# EAGLE library part 74HC390D (library NXP_By_element14_Batch_1)
Dual decade ripple counter
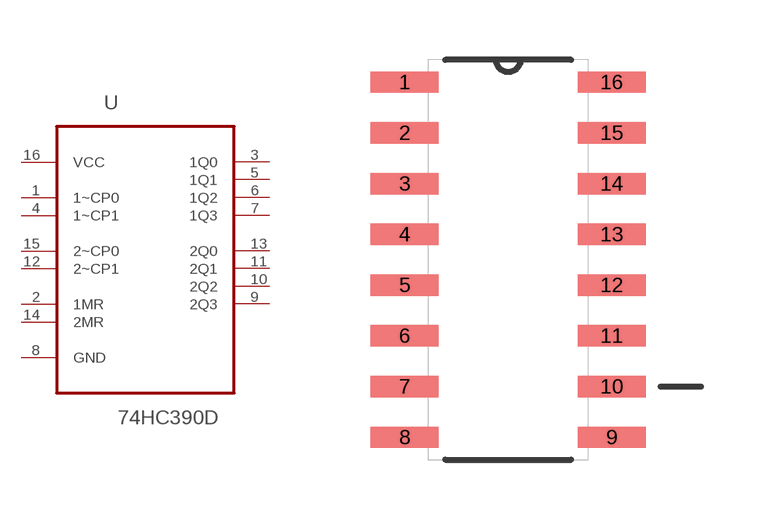
[diagram p79: symbol with the pads of SOIC127P600X175-16N; footprint SOIC127P600X175-16N]

Designator prefix U

## 74HC390D (MPN: 74HC390D; OC_FARNELL: 1085343; OC_NEWARK: 99K0594; P1I: o; PACKAGE: SOIC-16; SUPPLIER: NXP)  [SOIC127P600X175-16N]
1  1~CP0  in
2  1MR  in
3  1Q0  out
4  1~CP1  in
5  1Q1  out
6  1Q2  out
7  1Q3  out
8  GND  pas
9  2Q3  out
10  2Q2  out
11  2Q1  out
12  2~CP1  in
13  2Q0  out
14  2MR  in
15  2~CP0  in
16  VCC  pwr

## Footprint SOIC127P600X175-16N (pad centres in mm)
smd 1.702 x 0.533: 1 -2.591,4.445; 2 -2.591,3.175; 3 -2.591,1.905; 4 -2.591,0.635; 5 -2.591,-0.635; 6 -2.591,-1.905; 7 -2.591,-3.175; 8 -2.591,-4.445; 9 2.591,-4.445; 10 2.591,-3.175; 11 2.591,-1.905; 12 2.591,-0.635; 13 2.591,0.635; 14 2.591,1.905; 15 2.591,3.175; 16 2.591,4.445